# EAGLE library part 236-108/000-023 (library con-wago_236)
Serie 236, Stand: 01.01.2012. Die jeweils aktuellen Daten zu diesem Artikel finden Sie in unserem Produktkatalog, den Sie unter www.wago.com einsehen können. As of: 01/01/2012. Please find the newest data for this article in our product catalogue, which can be viewed under www.wago.com.
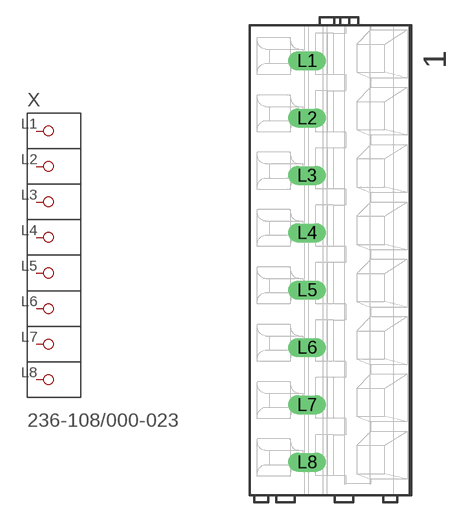
[diagram p285: symbol with the pads of P-236-108; footprint P-236-108]

Designator prefix X

## 236-108/000-023  [P-236-108]
L1  P1
L2  P2
L3  P3
L4  P4
L5  P5
L6  P6
L7  P7
L8  P8

## Footprint P-236-108 (pad centres in mm)
drill 1.1 long: L1 -2.043,17.35; L2 -2.043,12.35; L3 -2.043,7.35; L4 -2.043,2.35; L5 -2.043,-2.65; L6 -2.043,-7.65; L7 -2.043,-12.65; L8 -2.043,-17.65